# EAGLE library part AL5WNK_2 (library pedals-relays)
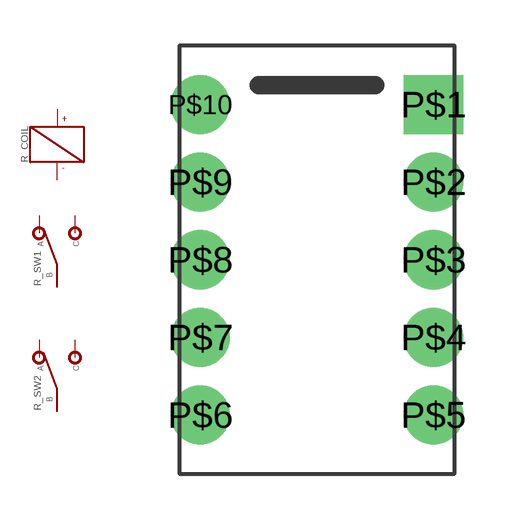
[diagram p1: symbol with the pads of 10PIN; footprint 10PIN]

Designator prefix R_; gates COIL=COIL SW1=SPDT SW2=SPDT

## AL5WNK_2  [10PIN]
P$1  COIL:+
P$2  SW1:A  pas
P$3  SW1:B  pas
P$4  SW1:C  pas
P$7  SW2:C  pas
P$8  SW2:B  pas
P$9  SW2:A  pas
P$10  COIL:-

## Footprint 10PIN (pad centres in mm)
drill 1 pad 1.93 square: P$1 3.81,5.08
drill 1 pad 1.93: P$2 3.81,2.54; P$3 3.81,0; P$4 3.81,-2.54; P$5 3.81,-5.08; P$6 -3.81,-5.08; P$7 -3.81,-2.54; P$8 -3.81,0; P$9 -3.81,2.54; P$10 -3.81,5.08